# EAGLE library part HMC5983 (library Honeywell)
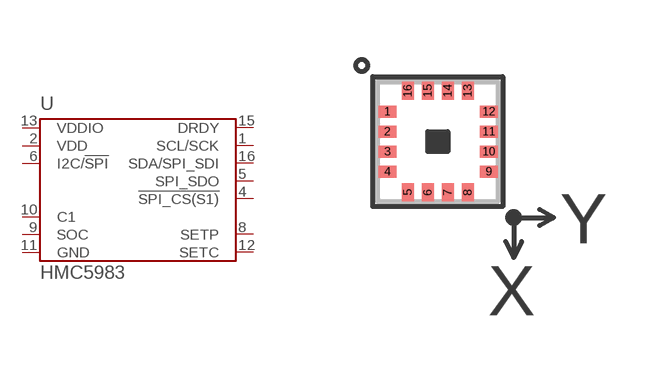
[diagram p0: symbol with the pads of HMC5983; footprint HMC5983]

Designator prefix U

## HMC5983  [HMC5983]
1  SCL/SCK
2  VDD
4  !SPI_CS(S1)
5  SPI_SDO
6  I2C/!SPI
8  SETP
9  SOC
10  C1
11  GND
12  SETC
13  VDDIO
15  DRDY
16  SDA/SPI_SDI

## Footprint HMC5983 (pad centres in mm)
smd 0.45 x 0.3: 1 -1.265,0.75; 2 -1.265,0.25; 3 -1.265,-0.25; 4 -1.265,-0.75; 9 1.275,-0.75; 10 1.275,-0.25; 11 1.275,0.25; 12 1.275,0.75
smd 0.3 x 0.45: 5 -0.75,-1.27; 6 -0.25,-1.27; 7 0.25,-1.27; 8 0.75,-1.27; 13 0.75,1.27; 14 0.25,1.27; 15 -0.25,1.27; 16 -0.75,1.27